# Altium footprint library LP38798SDE-ADJNOPB.PcbLib: 3 footprints
Each footprint in its own frame and in the unit in brackets; x right, y up, seen from the top. Pads: shape width x height; smd on the part's side, far side on the other; paste and mask are expansions set on the pad; w line width, h text height; cw(c..) or ccw(c..) is an arc to the next point about the centre after c.
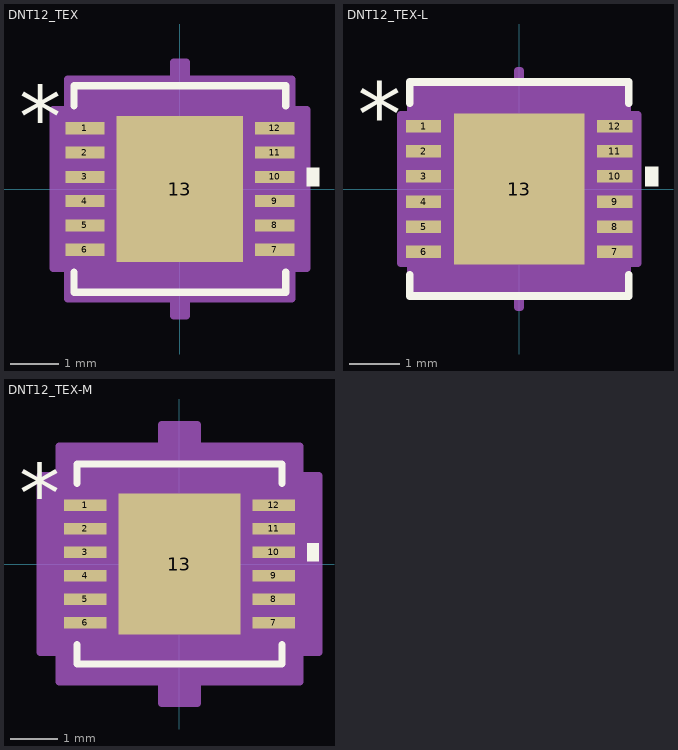
[diagram p0: the footprints below, top view; thin cyan lines are the x and y axes]

## DNT12_TEX [mm]
pads (13):
  rect 0.805x0.249 smd paste+0 mask+0: 1(-1.952,1.25) 2(-1.952,0.75) 3(-1.952,0.25) 4(-1.952,-0.25) 5(-1.952,-0.75) 6(-1.952,-1.25) 7(1.952,-1.25) 8(1.952,-0.75) 9(1.952,-0.25) 10(1.952,0.25) 11(1.952,0.75) 12(1.952,1.25)
  rect 2.6x3 smd paste-1.487 mask-1.486: 13(0,0)
Top Overlay:
  region: 2.609,0.44 2.863,0.44 2.863,0.059 2.609,0.059
  lines w0.152: -2.177,-1.707 -2.177,-2.127 2.177,-2.127 2.177,-1.707 ; -2.177,1.707 -2.177,2.127 2.177,2.127 2.177,1.707
  text "*" at -3.307,0.865 h1.27
Top Paste:
  drawing of 16 lines, arcs and shapes, not listed
Top Solder:
  region: -1.363,0.987 -1.363,1.563 1.363,1.563 1.363,0.987
  region: -1.363,0.2 -1.363,0.587 1.363,0.587 1.363,0.2
  region: -1.363,-0.587 -1.363,-0.2 1.363,-0.2 1.363,-0.587
  region: -1.363,-1.563 -1.363,-0.987 1.363,-0.987 1.363,-1.563
  region: -1.363,-1.563 -1.363,1.563 -0.987,1.563 -0.987,-1.563
  region: -0.2,-1.563 -0.2,1.563 -0.587,1.563 -0.587,-1.563
  region: 0.587,-1.563 0.587,1.563 0.2,1.563 0.2,-1.563
  region: 0.987,-1.563 0.987,1.563 1.363,1.563 1.363,-1.563
Mechanical 13:
  lines w0.025: -2.05,0.73 -0.78,2 ; -2.05,-2 2.05,-2 ; -2.05,-2 -2.05,2 ; -2.05,-2 -2.05,-2 ; -2.05,-1.4 -2.05,-1.1 ; -2.05,-1.4 -2.05,-1.1 ; -2.05,-1.4 -2.05,-1.4 ; -2.05,-1.1 -2.05,-1.1 ; -2.05,-0.9 -2.05,-0.6 ; -2.05,-0.9 -2.05,-0.6 ; -2.05,-0.9 -2.05,-0.9 ; -2.05,-0.6 -2.05,-0.6 ; -2.05,-0.4 -2.05,-0.1 ; -2.05,-0.4 -2.05,-0.1 ; -2.05,-0.4 -2.05,-0.4 ; -2.05,-0.1 -2.05,-0.1 ; -2.05,0.1 -2.05,0.4 ; -2.05,0.1 -2.05,0.4 ; -2.05,0.1 -2.05,0.1 ; -2.05,0.4 -2.05,0.4 ; -2.05,0.6 -2.05,0.9 ; -2.05,0.6 -2.05,0.9 ; -2.05,0.6 -2.05,0.6 ; -2.05,0.9 -2.05,0.9 ; -2.05,1.1 -2.05,1.4 ; -2.05,1.1 -2.05,1.4 ; -2.05,1.1 -2.05,1.1 ; -2.05,1.4 -2.05,1.4 ; -2.05,2 2.05,2 ; -2.05,2 -2.05,2 ; 2.05,-2 2.05,-2 ; 2.05,-2 2.05,2 ; 2.05,-1.4 2.05,-1.1 ; 2.05,-1.4 2.05,-1.4 ; 2.05,-1.4 2.05,-1.1 ; 2.05,-1.1 2.05,-1.1 ; 2.05,-0.9 2.05,-0.6 ; 2.05,-0.9 2.05,-0.9 ; 2.05,-0.9 2.05,-0.6 ; 2.05,-0.6 2.05,-0.6 ; 2.05,-0.4 2.05,-0.1 ; 2.05,-0.4 2.05,-0.4 ; 2.05,-0.4 2.05,-0.1 ; 2.05,-0.1 2.05,-0.1 ; 2.05,0.1 2.05,0.4 ; 2.05,0.1 2.05,0.1 ; 2.05,0.1 2.05,0.4 ; 2.05,0.4 2.05,0.4 ; 2.05,0.6 2.05,0.9 ; 2.05,0.6 2.05,0.6 ; 2.05,0.6 2.05,0.9 ; 2.05,0.9 2.05,0.9 ; 2.05,1.1 2.05,1.4 ; 2.05,1.1 2.05,1.1 ; 2.05,1.1 2.05,1.4 ; 2.05,1.4 2.05,1.4 ; 2.05,2 2.05,2
  text "*" at -1.867,0.865 h1.27
Mechanical 15:
  region: -0.129,-2.254 -2.304,-2.254 -2.304,-1.629 -2.609,-1.629 -2.609,1.629 -2.304,1.629 -2.304,2.254 -0.129,2.254 -0.129,2.609 0.129,2.609 0.129,2.254 2.304,2.254 2.304,1.629 2.609,1.629 2.609,-1.629 2.304,-1.629 2.304,-2.254 0.129,-2.254 0.129,-2.609 -0.129,-2.609
  lines w0.152: -2.609,-1.629 -2.304,-1.629 -2.304,-2.254 -0.129,-2.254 -0.129,-2.609 0.129,-2.609 0.129,-2.254 2.304,-2.254 2.304,-1.629 2.609,-1.629 2.609,1.629 2.304,1.629 2.304,2.254 0.129,2.254 0.129,2.609 -0.129,2.609 -0.129,2.254 -2.304,2.254 -2.304,1.629 -2.609,1.629 -2.609,-1.629
Via Holes:
  circle w0.254: c-0.787,-0.787 r0.381
  circle w0.254: c-0.787,0 r0.381
  circle w0.254: c-0.787,0.787 r0.381
  circle w0.254: c0,-0.787 r0.381
  circle w0.254: c0,0 r0.381
  circle w0.254: c0,0.787 r0.381
  circle w0.254: c0.787,-0.787 r0.381
  circle w0.254: c0.787,0 r0.381
  circle w0.254: c0.787,0.787 r0.381
3D body "DNT12_TEX.step": height 1.65, standoff 0, extent -2.05,-2 2.05,2

## DNT12_TEX-L [mm]
pads (13):
  rect 0.703x0.249 smd paste+0 mask+0: 1(-1.902,1.25) 2(-1.902,0.75) 3(-1.902,0.25) 4(-1.902,-0.25) 5(-1.902,-0.75) 6(-1.902,-1.25) 7(1.902,-1.25) 8(1.902,-0.75) 9(1.902,-0.25) 10(1.902,0.25) 11(1.902,0.75) 12(1.902,1.25)
  rect 2.6x3 smd paste-1.487 mask-1.486: 13(0,0)
Top Overlay:
  region: 2.507,0.44 2.761,0.44 2.761,0.059 2.507,0.059
  lines w0.152: -2.177,-1.707 -2.177,-2.127 2.177,-2.127 2.177,-1.707 ; -2.177,1.707 -2.177,2.127 2.177,2.127 2.177,1.707
  text "*" at -3.206,0.865 h1.27
Top Paste:
  drawing of 16 lines, arcs and shapes, not listed
Top Solder:
  region: -1.363,0.987 -1.363,1.563 1.363,1.563 1.363,0.987
  region: -1.363,0.2 -1.363,0.587 1.363,0.587 1.363,0.2
  region: -1.363,-0.587 -1.363,-0.2 1.363,-0.2 1.363,-0.587
  region: -1.363,-1.563 -1.363,-0.987 1.363,-0.987 1.363,-1.563
  region: -1.363,-1.563 -1.363,1.563 -0.987,1.563 -0.987,-1.563
  region: -0.2,-1.563 -0.2,1.563 -0.587,1.563 -0.587,-1.563
  region: 0.587,-1.563 0.587,1.563 0.2,1.563 0.2,-1.563
  region: 0.987,-1.563 0.987,1.563 1.363,1.563 1.363,-1.563
Mechanical 13:
  lines w0.025: -2.05,0.73 -0.78,2 ; -2.05,-2 2.05,-2 ; -2.05,-2 -2.05,2 ; -2.05,-2 -2.05,-2 ; -2.05,-1.4 -2.05,-1.1 ; -2.05,-1.4 -2.05,-1.1 ; -2.05,-1.4 -2.05,-1.4 ; -2.05,-1.1 -2.05,-1.1 ; -2.05,-0.9 -2.05,-0.6 ; -2.05,-0.9 -2.05,-0.6 ; -2.05,-0.9 -2.05,-0.9 ; -2.05,-0.6 -2.05,-0.6 ; -2.05,-0.4 -2.05,-0.1 ; -2.05,-0.4 -2.05,-0.1 ; -2.05,-0.4 -2.05,-0.4 ; -2.05,-0.1 -2.05,-0.1 ; -2.05,0.1 -2.05,0.4 ; -2.05,0.1 -2.05,0.4 ; -2.05,0.1 -2.05,0.1 ; -2.05,0.4 -2.05,0.4 ; -2.05,0.6 -2.05,0.9 ; -2.05,0.6 -2.05,0.9 ; -2.05,0.6 -2.05,0.6 ; -2.05,0.9 -2.05,0.9 ; -2.05,1.1 -2.05,1.4 ; -2.05,1.1 -2.05,1.4 ; -2.05,1.1 -2.05,1.1 ; -2.05,1.4 -2.05,1.4 ; -2.05,2 2.05,2 ; -2.05,2 -2.05,2 ; 2.05,-2 2.05,-2 ; 2.05,-2 2.05,2 ; 2.05,-1.4 2.05,-1.1 ; 2.05,-1.4 2.05,-1.4 ; 2.05,-1.4 2.05,-1.1 ; 2.05,-1.1 2.05,-1.1 ; 2.05,-0.9 2.05,-0.6 ; 2.05,-0.9 2.05,-0.9 ; 2.05,-0.9 2.05,-0.6 ; 2.05,-0.6 2.05,-0.6 ; 2.05,-0.4 2.05,-0.1 ; 2.05,-0.4 2.05,-0.4 ; 2.05,-0.4 2.05,-0.1 ; 2.05,-0.1 2.05,-0.1 ; 2.05,0.1 2.05,0.4 ; 2.05,0.1 2.05,0.1 ; 2.05,0.1 2.05,0.4 ; 2.05,0.4 2.05,0.4 ; 2.05,0.6 2.05,0.9 ; 2.05,0.6 2.05,0.6 ; 2.05,0.6 2.05,0.9 ; 2.05,0.9 2.05,0.9 ; 2.05,1.1 2.05,1.4 ; 2.05,1.1 2.05,1.1 ; 2.05,1.1 2.05,1.4 ; 2.05,1.4 2.05,1.4 ; 2.05,2 2.05,2
  text "*" at -1.867,0.865 h1.27
Mechanical 15:
  region: 0.024,-2.102 -2.152,-2.102 -2.152,-1.476 -2.355,-1.476 -2.355,1.476 -2.152,1.476 -2.152,2.102 0.024,2.102 0.024,2.355 -0.024,2.355 -0.024,2.102 2.152,2.102 2.152,1.476 2.355,1.476 2.355,-1.476 2.152,-1.476 2.152,-2.102 -0.024,-2.102 -0.024,-2.355 0.024,-2.355
  lines w0.152: -2.355,-1.476 -2.152,-1.476 -2.152,-2.102 0.024,-2.102 0.024,-2.355 -0.024,-2.355 -0.024,-2.102 2.152,-2.102 2.152,-1.476 2.355,-1.476 2.355,1.476 2.152,1.476 2.152,2.102 -0.024,2.102 -0.024,2.355 0.024,2.355 0.024,2.102 -2.152,2.102 -2.152,1.476 -2.355,1.476 -2.355,-1.476
Via Holes:
  circle w0.254: c-0.787,-0.787 r0.381
  circle w0.254: c-0.787,0 r0.381
  circle w0.254: c-0.787,0.787 r0.381
  circle w0.254: c0,-0.787 r0.381
  circle w0.254: c0,0 r0.381
  circle w0.254: c0,0.787 r0.381
  circle w0.254: c0.787,-0.787 r0.381
  circle w0.254: c0.787,0 r0.381
  circle w0.254: c0.787,0.787 r0.381
3D body "DNT12_TEX.step": height 1.65, standoff 0, extent -2.05,-2 2.05,2

## DNT12_TEX-M [mm]
pads (13):
  rect 0.906x0.249 smd paste+0 mask+0: 1(-2.003,1.25) 2(-2.003,0.75) 3(-2.003,0.25) 4(-2.003,-0.25) 5(-2.003,-0.75) 6(-2.003,-1.25) 7(2.003,-1.25) 8(2.003,-0.75) 9(2.003,-0.25) 10(2.003,0.25) 11(2.003,0.75) 12(2.003,1.25)
  rect 2.6x3 smd paste-1.487 mask-1.486: 13(0,0)
Top Overlay:
  region: 2.71,0.44 2.964,0.44 2.964,0.059 2.71,0.059
  lines w0.152: -2.177,-1.707 -2.177,-2.127 2.177,-2.127 2.177,-1.707 ; -2.177,1.707 -2.177,2.127 2.177,2.127 2.177,1.707
  text "*" at -3.409,0.865 h1.27
Top Paste:
  drawing of 16 lines, arcs and shapes, not listed
Top Solder:
  region: -1.363,0.987 -1.363,1.563 1.363,1.563 1.363,0.987
  region: -1.363,0.2 -1.363,0.587 1.363,0.587 1.363,0.2
  region: -1.363,-0.587 -1.363,-0.2 1.363,-0.2 1.363,-0.587
  region: -1.363,-1.563 -1.363,-0.987 1.363,-0.987 1.363,-1.563
  region: -1.363,-1.563 -1.363,1.563 -0.987,1.563 -0.987,-1.563
  region: -0.2,-1.563 -0.2,1.563 -0.587,1.563 -0.587,-1.563
  region: 0.587,-1.563 0.587,1.563 0.2,1.563 0.2,-1.563
  region: 0.987,-1.563 0.987,1.563 1.363,1.563 1.363,-1.563
Mechanical 13:
  lines w0.025: -2.05,0.73 -0.78,2 ; -2.05,-2 2.05,-2 ; -2.05,-2 -2.05,2 ; -2.05,-2 -2.05,-2 ; -2.05,-1.4 -2.05,-1.1 ; -2.05,-1.4 -2.05,-1.1 ; -2.05,-1.4 -2.05,-1.4 ; -2.05,-1.1 -2.05,-1.1 ; -2.05,-0.9 -2.05,-0.6 ; -2.05,-0.9 -2.05,-0.6 ; -2.05,-0.9 -2.05,-0.9 ; -2.05,-0.6 -2.05,-0.6 ; -2.05,-0.4 -2.05,-0.1 ; -2.05,-0.4 -2.05,-0.1 ; -2.05,-0.4 -2.05,-0.4 ; -2.05,-0.1 -2.05,-0.1 ; -2.05,0.1 -2.05,0.4 ; -2.05,0.1 -2.05,0.4 ; -2.05,0.1 -2.05,0.1 ; -2.05,0.4 -2.05,0.4 ; -2.05,0.6 -2.05,0.9 ; -2.05,0.6 -2.05,0.9 ; -2.05,0.6 -2.05,0.6 ; -2.05,0.9 -2.05,0.9 ; -2.05,1.1 -2.05,1.4 ; -2.05,1.1 -2.05,1.4 ; -2.05,1.1 -2.05,1.1 ; -2.05,1.4 -2.05,1.4 ; -2.05,2 2.05,2 ; -2.05,2 -2.05,2 ; 2.05,-2 2.05,-2 ; 2.05,-2 2.05,2 ; 2.05,-1.4 2.05,-1.1 ; 2.05,-1.4 2.05,-1.4 ; 2.05,-1.4 2.05,-1.1 ; 2.05,-1.1 2.05,-1.1 ; 2.05,-0.9 2.05,-0.6 ; 2.05,-0.9 2.05,-0.9 ; 2.05,-0.9 2.05,-0.6 ; 2.05,-0.6 2.05,-0.6 ; 2.05,-0.4 2.05,-0.1 ; 2.05,-0.4 2.05,-0.4 ; 2.05,-0.4 2.05,-0.1 ; 2.05,-0.1 2.05,-0.1 ; 2.05,0.1 2.05,0.4 ; 2.05,0.1 2.05,0.1 ; 2.05,0.1 2.05,0.4 ; 2.05,0.4 2.05,0.4 ; 2.05,0.6 2.05,0.9 ; 2.05,0.6 2.05,0.6 ; 2.05,0.6 2.05,0.9 ; 2.05,0.9 2.05,0.9 ; 2.05,1.1 2.05,1.4 ; 2.05,1.1 2.05,1.1 ; 2.05,1.1 2.05,1.4 ; 2.05,1.4 2.05,1.4 ; 2.05,2 2.05,2
  text "*" at -1.867,0.865 h1.27
Mechanical 15:
  region: -0.383,-2.508 -2.558,-2.508 -2.558,-1.883 -2.964,-1.883 -2.964,1.883 -2.558,1.883 -2.558,2.508 -0.383,2.508 -0.383,2.964 0.383,2.964 0.383,2.508 2.558,2.508 2.558,1.883 2.964,1.883 2.964,-1.883 2.558,-1.883 2.558,-2.508 0.383,-2.508 0.383,-2.964 -0.383,-2.964
  lines w0.152: -2.964,-1.883 -2.558,-1.883 -2.558,-2.508 -0.383,-2.508 -0.383,-2.964 0.383,-2.964 0.383,-2.508 2.558,-2.508 2.558,-1.883 2.964,-1.883 2.964,1.883 2.558,1.883 2.558,2.508 0.383,2.508 0.383,2.964 -0.383,2.964 -0.383,2.508 -2.558,2.508 -2.558,1.883 -2.964,1.883 -2.964,-1.883
Via Holes:
  circle w0.254: c-0.787,-0.787 r0.381
  circle w0.254: c-0.787,0 r0.381
  circle w0.254: c-0.787,0.787 r0.381
  circle w0.254: c0,-0.787 r0.381
  circle w0.254: c0,0 r0.381
  circle w0.254: c0,0.787 r0.381
  circle w0.254: c0.787,-0.787 r0.381
  circle w0.254: c0.787,0 r0.381
  circle w0.254: c0.787,0.787 r0.381
3D body "DNT12_TEX.step": height 1.65, standoff 0, extent -2.05,-2 2.05,2